# Altium footprint library DAC3482.PcbLib: 1 footprints
Each footprint in its own frame and in the unit in brackets; x right, y up, seen from the top. Pads: shape width x height; smd on the part's side, far side on the other; paste and mask are expansions set on the pad; w line width, h text height; cw(c..) or ccw(c..) is an arc to the next point about the centre after c.
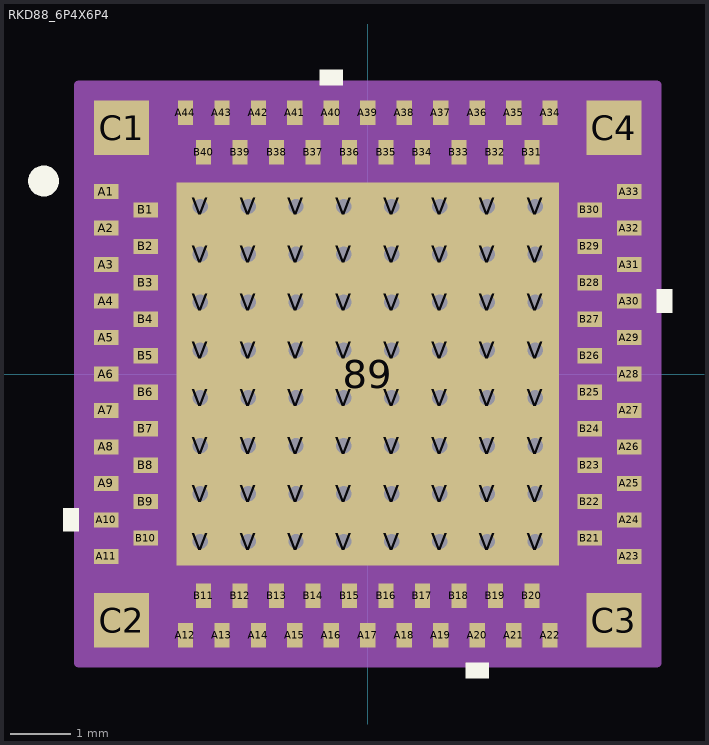
[diagram p0: the footprint, top view; thin cyan lines are the x and y axes]

## RKD88_6P4X6P4 [mm]
pads (153):
  rect 6.3x6.3 smd paste-3.137: 89(0,0)
  rect 0.4x0.25 smd paste-0.187: A1(-4.3,3) A2(-4.3,2.4) A3(-4.3,1.8) A4(-4.3,1.2) A5(-4.3,0.6) A6(-4.3,0) A7(-4.3,-0.6) A8(-4.3,-1.2) A9(-4.3,-1.8) A10(-4.3,-2.4) A11(-4.3,-3) A23(4.3,-3) A24(4.3,-2.4) A25(4.3,-1.8) A26(4.3,-1.2) A27(4.3,-0.6) A28(4.3,0) A29(4.3,0.6) A30(4.3,1.2) A31(4.3,1.8) A32(4.3,2.4) A33(4.3,3) B1(-3.65,2.7) B2(-3.65,2.1) B3(-3.65,1.5) B4(-3.65,0.9) B5(-3.65,0.3) B6(-3.65,-0.3) B7(-3.65,-0.9) B8(-3.65,-1.5) B9(-3.65,-2.1) B10(-3.65,-2.7) B21(3.65,-2.7) B22(3.65,-2.1) B23(3.65,-1.5) B24(3.65,-0.9) B25(3.65,-0.3) B26(3.65,0.3) B27(3.65,0.9) B28(3.65,1.5) B29(3.65,2.1) B30(3.65,2.7)
  rect 0.25x0.4 smd paste-0.187: A12(-3,-4.3) A13(-2.4,-4.3) A14(-1.8,-4.3) A15(-1.2,-4.3) A16(-0.6,-4.3) A17(0,-4.3) A18(0.6,-4.3) A19(1.2,-4.3) A20(1.8,-4.3) A21(2.4,-4.3) A22(3,-4.3) A34(3,4.3) A35(2.4,4.3) A36(1.8,4.3) A37(1.2,4.3) A38(0.6,4.3) A39(0,4.3) A40(-0.6,4.3) A41(-1.2,4.3) A42(-1.8,4.3) A43(-2.4,4.3) A44(-3,4.3) B11(-2.7,-3.65) B12(-2.1,-3.65) B13(-1.5,-3.65) B14(-0.9,-3.65) B15(-0.3,-3.65) B16(0.3,-3.65) B17(0.9,-3.65) B18(1.5,-3.65) B19(2.1,-3.65) B20(2.7,-3.65) B31(2.7,3.65) B32(2.1,3.65) B33(1.5,3.65) B34(0.9,3.65) B35(0.3,3.65) B36(-0.3,3.65) B37(-0.9,3.65) B38(-1.5,3.65) B39(-2.1,3.65) B40(-2.7,3.65)
  rect 0.9x0.9 smd paste-0.15: C1(-4.05,4.05) C2(-4.05,-4.05) C3(4.05,-4.05) C4(4.05,4.05)
  round 0.508 / inner round 1.524 / far side round 0.508 hole 0.254: V(-2.756,-2.756) V(-2.756,-1.968) V(-2.756,-1.181) V(-2.756,-0.394) V(-2.756,0.394) V(-2.756,1.181) V(-2.756,1.968) V(-2.756,2.756) V(-1.968,-2.756) V(-1.968,-1.968) V(-1.968,-1.181) V(-1.968,-0.394) V(-1.968,0.394) V(-1.968,1.181) V(-1.968,1.968) V(-1.968,2.756) V(-1.181,-2.756) V(-1.181,-1.968) V(-1.181,-1.181) V(-1.181,-0.394) V(-1.181,0.394) V(-1.181,1.181) V(-1.181,1.968) V(-1.181,2.756) V(-0.394,-2.756) V(-0.394,-1.968) V(-0.394,-1.181) V(-0.394,-0.394) V(-0.394,0.394) V(-0.394,1.181) V(-0.394,1.968) V(-0.394,2.756) V(0.394,-2.756) V(0.394,-1.968) V(0.394,-1.181) V(0.394,-0.394) V(0.394,0.394) V(0.394,1.181) V(0.394,1.968) V(0.394,2.756) V(1.181,-2.756) V(1.181,-1.968) V(1.181,-1.181) V(1.181,-0.394) V(1.181,0.394) V(1.181,1.181) V(1.181,1.968) V(1.181,2.756) V(1.968,-2.756) V(1.968,-1.968) V(1.968,-1.181) V(1.968,-0.394) V(1.968,0.394) V(1.968,1.181) V(1.968,1.968) V(1.968,2.756) V(2.756,-2.756) V(2.756,-1.968) V(2.756,-1.181) V(2.756,-0.394) V(2.756,0.394) V(2.756,1.181) V(2.756,1.968) V(2.756,2.756)
Top Overlay:
  circle w0.254: c-5.334,3.175 r0.127
  region: -0.409,4.754 -0.79,4.754 -0.79,5.008 -0.409,5.008
  region: 4.754,1.391 5.008,1.391 5.008,1.01 4.754,1.01
  region: 1.99,-4.754 1.609,-4.754 1.609,-5.008 1.99,-5.008
  region: -4.754,-2.21 -5.008,-2.21 -5.008,-2.591 -4.754,-2.591
Top Paste:
  drawing of 165 lines, arcs and shapes, not listed
Top Solder:
  drawing of 102 lines, arcs and shapes, not listed
Mechanical 15:
  region: 4.754,-4.754 -4.754,-4.754 -4.754,4.754 4.754,4.754
  lines w0.152: -4.754,-4.754 4.754,-4.754 4.754,4.754 -4.754,4.754 -4.754,-4.754
3D body: height 0.25, standoff 0, extent 0,0 0.254,0.254